# Altium footprint library RES_5W_VERT.PcbLib: 1 footprints
Each footprint in its own frame and in the unit in brackets; x right, y up, seen from the top. Pads: shape width x height; smd on the part's side, far side on the other; paste and mask are expansions set on the pad; w line width, h text height; cw(c..) or ccw(c..) is an arc to the next point about the centre after c.
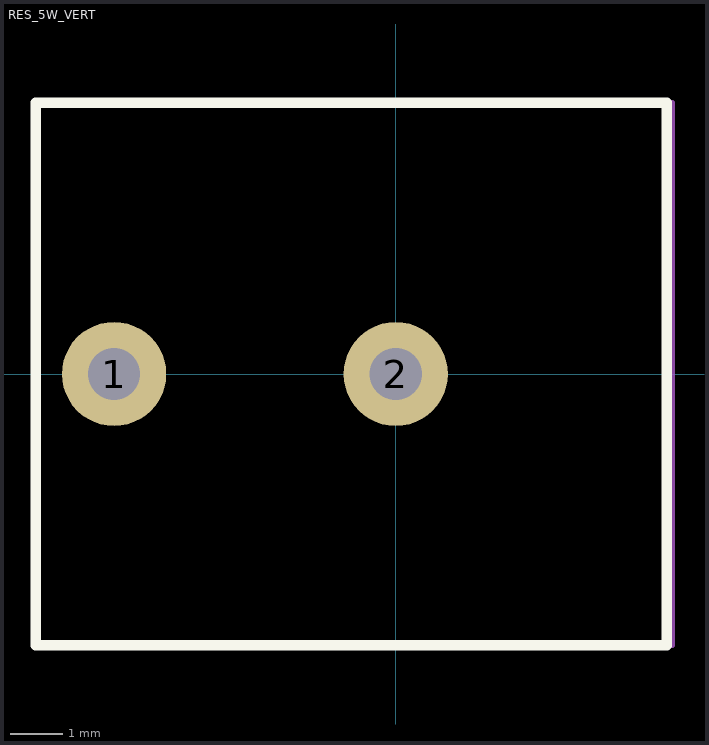
[diagram p0: the footprint, top view; thin cyan lines are the x and y axes]

## RES_5W_VERT [mm]
height 0.55
pads (2):
  round 2 hole 1: 1(-5.4,0) 2(0,0)
Top Overlay:
  lines w0.2: -6.9,-5.2 5.2,-5.2 5.2,5.2 -6.9,5.2 -6.9,-5.2
Top Assembly:
  lines w0.1: -6.9,-5.2 -6.9,5.2 5.3,5.2 5.3,1.1 5.3,-0.9 5.3,-5.2 -6.9,-5.2
  text "'.Designator'" at -0.975,-0.35 h0.7
3D body "Resistor 5W20KJ (vert).STEP": height 23.4, standoff -4, extent -5.81,-5 5,5